# Altium schematic symbol library LogicLevelShifter.SchLib: 1 symbol
Pins are listed as number, name and electrical type; pins without a type are passive.

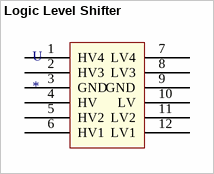
[diagram p0: symbol Logic Level Shifter]

## Logic Level Shifter
designator U
footprint LogicLevelShifter
pins: 1 HV4, 2 HV3, 3 GND, 4 HV, 5 HV2, 6 HV1, 7 LV4, 8 LV3, 9 GND, 10 LV, 11 LV2, 12 LV1